# Altium schematic symbol library SCH - MOSFETS - DMP4015SSS-13.SCHLIB: 1 symbol
Pins are listed as number, name and electrical type; pins without a type are passive.

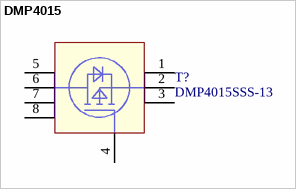
[diagram p0: symbol DMP4015]

## DMP4015
designator T?, comment DMP4015SSS-13
footprint SOIC127P600X175-8N
pins: 1 SOURCE, 2 SOURCE, 3 SOURCE, 4 GATE, 5 DRAIN, 6 DRAIN, 7 DRAIN, 8 DRAIN